# Altium footprint library adafruit.PCBLIB: 643 footprints (part 7 of 41)
Each footprint in its own frame and in the unit in brackets; x right, y up, seen from the top. Pads: shape width x height; smd on the part's side, far side on the other; paste and mask are expansions set on the pad; w line width, h text height; cw(c..) or ccw(c..) is an arc to the next point about the centre after c.
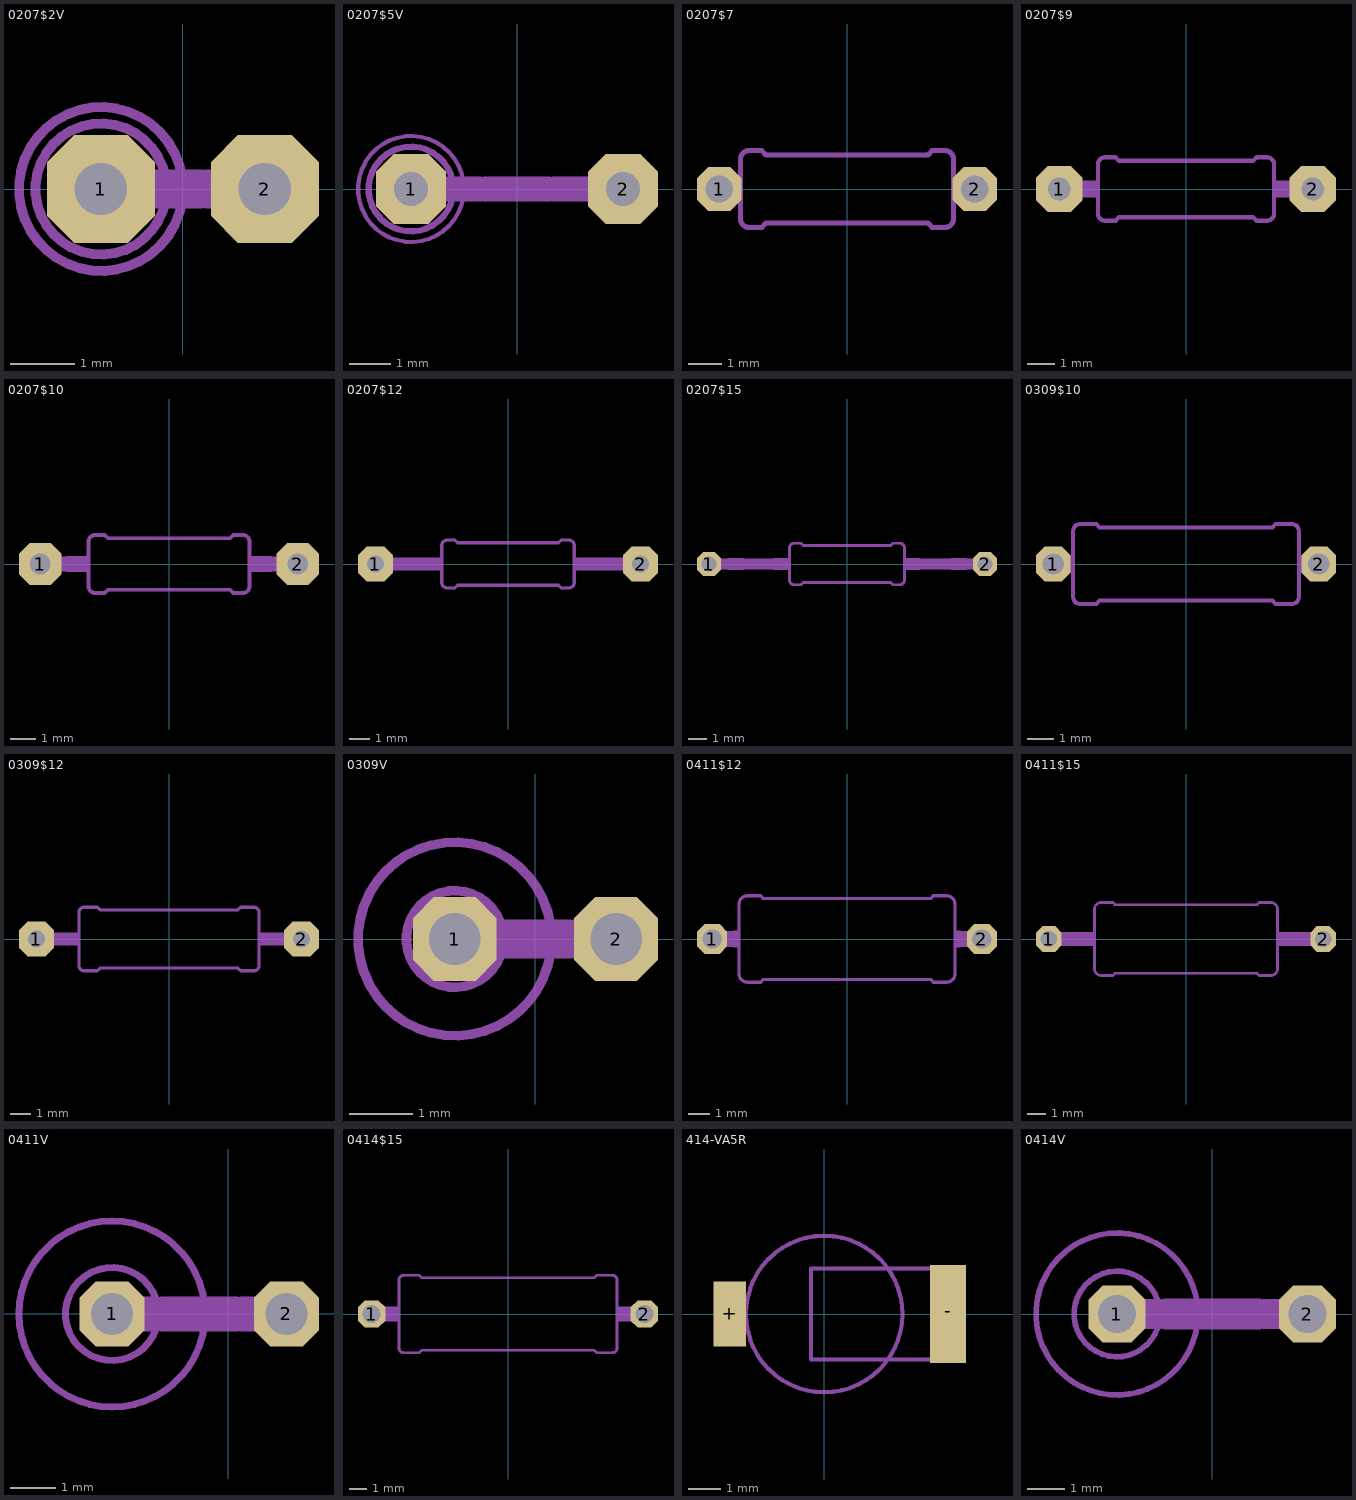
[diagram p6: the footprints below, top view; thin cyan lines are the x and y axes]

## 0207$2V [mil]
pads (2):
  oct 66x66 / inner round 60.98 / far side oct 66x66 hole 32: 1(-50,0) 2(50,0)
tDocu:
  circle w6: c-50,0 r40
  lines w24: -50,0 -15,0 ; 15,0 50,0
tPlace:
  circle w6: c-50,0 r50
  lines w24: -10,0 10,0

## 0207$5V [mil]
pads (2):
  oct 66x66 / inner round 60.98 / far side oct 66x66 hole 32: 1(-100,0) 2(100,0)
tDocu:
  circle w6: c-100,0 r40
  lines w24: -100,0 -35,0 ; 35,0 100,0
tPlace:
  circle w4: c-100,0 r50
  lines w24: -30,0 30,0

## 0207$7 [mil]
pads (2):
  oct 52x52 / inner round 48.04 / far side oct 52x52 hole 32: 1(-150,0) 2(150,0)
tDocu:
  region: -135,-12 -135,12 -125,12 -125,-12
  region: 125,-12 125,12 135,12 135,-12
  lines w6: -125,-35 -125,35 ; 125,-35 125,35
  lines w24: -150,0 -135,0 ; 135,0 150,0
tPlace:
  lines w6: -125,-35 ccw(c-115,-35) -115,-45 -100,-45 -95,-40 95,-40 100,-45 115,-45 ccw(c115,-35) 125,-35 ; -125,35 cw(c-115,35) -115,45 -100,45 -95,40 95,40 100,45 115,45 cw(c115,35) 125,35

## 0207$9 [mil]
pads (2):
  oct 66x66 / inner round 60.98 / far side oct 66x66 hole 32: 1(-180,0) 2(180,0)
tPlace:
  region: 125,-12 125,12 159,12 159,-12
  region: -159,-12 -159,12 -125,12 -125,-12
  lines w6: -125,-35 ccw(c-115,-35) -115,-45 -100,-45 -95,-40 95,-40 100,-45 115,-45 ccw(c115,-35) 125,-35 125,35 ccw(c115,35) 115,45 100,45 95,40 -95,40 -100,45 -115,45 ccw(c-115,35) -125,35 -125,-35

## 0207$10 [mil]
pads (2):
  oct 66x66 / inner round 60.98 / far side oct 66x66 hole 32: 1(-200,0) 2(200,0)
tDocu:
  lines w24: -200,0 -160,0 ; 160,0 200,0
tPlace:
  region: 125,-12 125,12 159,12 159,-12
  region: -159,-12 -159,12 -125,12 -125,-12
  lines w6: -125,-35 ccw(c-115,-35) -115,-45 -100,-45 -95,-40 95,-40 100,-45 115,-45 ccw(c115,-35) 125,-35 125,35 ccw(c115,35) 115,45 100,45 95,40 -95,40 -100,45 -115,45 ccw(c-115,35) -125,35 -125,-35

## 0207$12 [mil]
pads (2):
  oct 66x66 / inner round 60.98 / far side oct 66x66 hole 32: 1(-250,0) 2(250,0)
tDocu:
  lines w24: -250,0 -210,0 ; 210,0 250,0
tPlace:
  region: 125,-12 125,12 159,12 159,-12
  region: -159,-12 -159,12 -125,12 -125,-12
  region: 175,-12 175,12 209,12 209,-12
  region: -209,-12 -209,12 -175,12 -175,-12
  lines w6: -125,-35 ccw(c-115,-35) -115,-45 -100,-45 -95,-40 95,-40 100,-45 115,-45 ccw(c115,-35) 125,-35 125,35 ccw(c115,35) 115,45 100,45 95,40 -95,40 -100,45 -115,45 ccw(c-115,35) -125,35 -125,-35
  lines w24: -175,0 -160,0 ; 160,0 175,0

## 0207$15 [mil]
pads (2):
  oct 52x52 / inner round 48.04 / far side oct 52x52 hole 32: 1(-300,0) 2(300,0)
tDocu:
  lines w24: -300,0 -260,0 ; 260,0 300,0
tPlace:
  region: 125,-12 125,12 159,12 159,-12
  region: -159,-12 -159,12 -125,12 -125,-12
  region: 225,-12 225,12 259,12 259,-12
  region: -259,-12 -259,12 -225,12 -225,-12
  lines w6: -125,-35 ccw(c-115,-35) -115,-45 -100,-45 -95,-40 95,-40 100,-45 115,-45 ccw(c115,-35) 125,-35 125,35 ccw(c115,35) 115,45 100,45 95,40 -95,40 -100,45 -115,45 ccw(c-115,35) -125,35 -125,-35
  lines w24: -225,0 -160,0 ; 160,0 225,0

## 0309$10 [mil]
pads (2):
  oct 52x52 / inner round 48.04 / far side oct 52x52 hole 32: 1(-200,0) 2(200,0)
tDocu:
  region: -182,-12 -182,12 -170,12 -170,-12
  region: 170,-12 170,12 182,12 182,-12
  lines w6: -170,-50 -170,50 ; 170,-50 170,50
  lines w24: -200,0 -185,0 ; 185,0 200,0
tPlace:
  lines w6: -170,-50 ccw(c-160,-50) -160,-60 -135,-60 -130,-55 130,-55 135,-60 160,-60 ccw(c160,-50) 170,-50 ; -170,50 cw(c-160,50) -160,60 -135,60 -130,55 130,55 135,60 160,60 cw(c160,50) 170,50

## 0309$12 [mil]
pads (2):
  oct 66x66 / inner round 60.98 / far side oct 66x66 hole 32: 1(-250,0) 2(250,0)
tDocu:
  lines w24: -250,0 -200,0 ; 200,0 250,0
tPlace:
  region: 170,-12 170,12 204,12 204,-12
  region: -204,-12 -204,12 -170,12 -170,-12
  lines w6: -170,-50 ccw(c-160,-50) -160,-60 -135,-60 -130,-55 130,-55 135,-60 160,-60 ccw(c160,-50) 170,-50 170,50 ccw(c160,50) 160,60 135,60 130,55 -130,55 -135,60 -160,60 ccw(c-160,50) -170,50 -170,-50

## 0309V [mil]
pads (2):
  oct 52x52 / inner round 48.04 / far side oct 52x52 hole 32: 1(-50,0) 2(50,0)
tDocu:
  circle w6: c-50,0 r30
  region: 10,-12 10,12 22,12 22,-12
  region: -25,-12 -25,12 -13,12 -13,-12
  lines w24: -50,0 -25,0 ; 25,0 50,0
tPlace:
  circle w6: c-50,0 r60
  region: -13,-12 -13,12 10,12 10,-12

## 0411$12 [mil]
pads (2):
  oct 56x56 / inner round 51.74 / far side oct 56x56 hole 36: 1(-250,0) 2(250,0)
tDocu:
  lines w30: -250,0 -215,0 ; 215,0 250,0
tPlace:
  region: -211,-15 -211,15 -200,15 -200,-15
  region: 200,-15 200,15 211,15 211,-15
  lines w6: -200,-65 ccw(c-185,-65) -185,-80 -160,-80 -155,-75 155,-75 160,-80 185,-80 ccw(c185,-65) 200,-65 200,65 ccw(c185,65) 185,80 160,80 155,75 -155,75 -160,80 -185,80 ccw(c-185,65) -200,65 -200,-65

## 0411$15 [mil]
pads (2):
  oct 56x56 / inner round 51.74 / far side oct 56x56 hole 36: 1(-300,0) 2(300,0)
tDocu:
  lines w30: -300,0 -250,0 ; 250,0 300,0
tPlace:
  region: 200,-15 200,15 255,15 255,-15
  region: -255,-15 -255,15 -200,15 -200,-15
  lines w6: -200,-65 ccw(c-185,-65) -185,-80 -160,-80 -155,-75 155,-75 160,-80 185,-80 ccw(c185,-65) 200,-65 200,65 ccw(c185,65) 185,80 160,80 155,75 -155,75 -160,80 -185,80 ccw(c-185,65) -200,65 -200,-65

## 0411V [mil]
pads (2):
  oct 56x56 / inner round 51.74 / far side oct 56x56 hole 36: 1(-100,0) 2(50,0)
tDocu:
  circle w6: c-100,0 r40
  lines w30: -100,0 -62,0 ; 12,0 50,0
tPlace:
  circle w6: c-100,0 r80
  region: -58,-15 -58,15 8,15 8,-15

## 0414$15 [mil]
pads (2):
  oct 60x60 / inner round 55.43 / far side oct 60x60 hole 40: 1(-300,0) 2(300,0)
tDocu:
  lines w32: -300,0 -260,0 ; 260,0 300,0
tPlace:
  region: 240,-16 240,16 256,16 256,-16
  region: -256,-16 -256,16 -240,16 -240,-16
  lines w6: -240,-75 ccw(c-230,-75) -230,-85 -195,-85 -190,-80 190,-80 195,-85 230,-85 ccw(c230,-75) 240,-75 240,75 ccw(c230,75) 230,85 195,85 190,80 -190,80 -195,85 -230,85 ccw(c-230,75) -240,75 -240,-75

## 414-VA5R [mm]
pads (2):
  rect 1x2 smd: +(-2.9,0)
  rect 1.1x3 smd: -(3.8,0)
tValues:
  lines w0.127: -0.4,-1.4 4.1,-1.4 4.1,1.4 -0.4,1.4 -0.4,-1.4
tPlace:
  circle w0.127: c0,0 r2.4

## 0414V [mil]
pads (2):
  oct 60x60 / inner round 55.43 / far side oct 60x60 hole 40: 1(-100,0) 2(100,0)
tDocu:
  circle w6: c-100,0 r45
  lines w32: -100,0 -55,0 ; 55,0 100,0
tPlace:
  circle w6: c-100,0 r85
  region: -51,-16 -51,16 51,16 51,-16